# Altium footprint library WR06X152 JTL 1.5K Ohm 0603.PcbLib: 1 footprints
Each footprint in its own frame and in the unit in brackets; x right, y up, seen from the top. Pads: shape width x height; smd on the part's side, far side on the other; paste and mask are expansions set on the pad; w line width, h text height; cw(c..) or ccw(c..) is an arc to the next point about the centre after c.
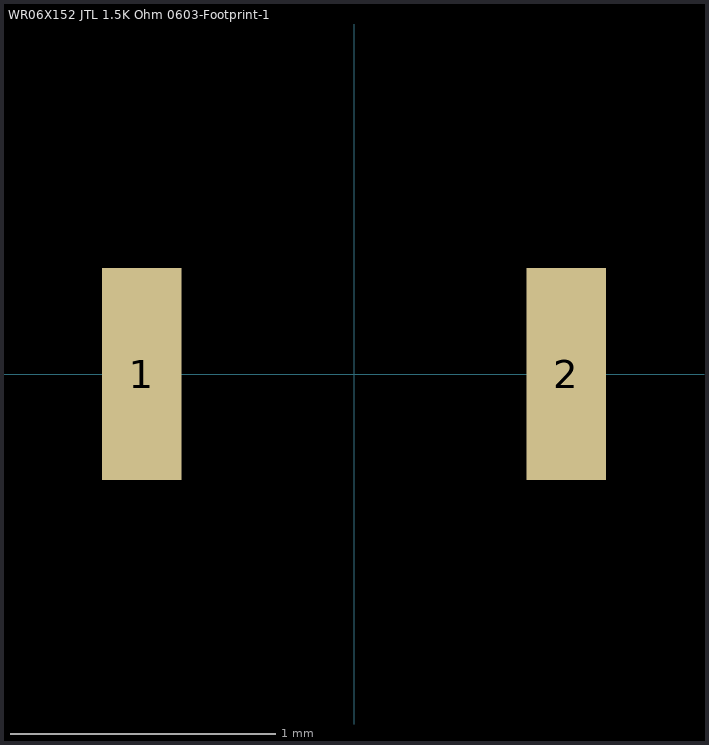
[diagram p0: the footprint, top view; thin cyan lines are the x and y axes]

## WR06X152 JTL 1.5K Ohm 0603-Footprint-1 [mm]
pads (2):
  rect 0.3x0.8 smd: 1(-0.8,0) 2(0.8,0)
3D body "0603 Resistor.step": height 0.56, standoff 0, extent -0.851,-0.444 0.851,0.444